# Altium schematic symbol library ACSIP.SchLib: 1 symbol
Pins are listed as number, name and electrical type; pins without a type are passive.

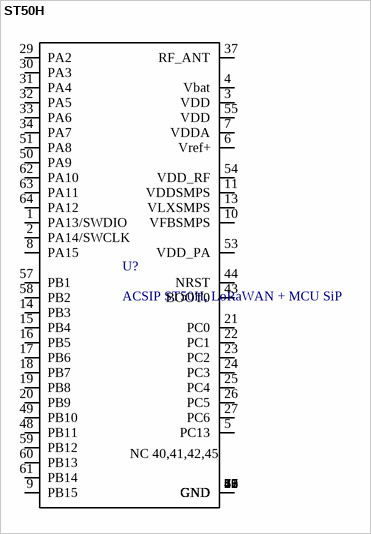
[diagram p0: symbol ST50H]

## ST50H
designator U?, comment ACSIP ST50H, LoRaWAN + MCU SiP
Manufacturer: ACSIP; Part Number: ST50H; Price 1: *; Price 100: *; Price 1000: *
footprint ST50H
pins: 1 PA13/SWDIO, 2 PA14/SWCLK, 3 VDD, 4 Vbat, 5 PC13, 6 Vref+, 7 VDDA, 8 PA15, 9 PB15, 10 VFBSMPS, 11 VDDSMPS, 12 GND, 13 VLXSMPS, 14 PB3, 15 PB4, 16 PB5, 17 PB6, 18 PB7, 19 PB8, 20 PB9, 21 PC0, 22 PC1, 23 PC2, 24 PC3, 25 PC4, 26 PC5, 27 PC6, 28 GND, 29 PA2, 30 PA3, 31 PA4, 32 PA5, 33 PA6, 34 PA7, 35 GND, 36 GND, 37 RF_ANT, 38 GND, 39 GND, 43 BOOT0, 44 NRST, 46 GND, 47 GND, 48 PB11, 49 PB10, 50 PA9, 51 PA8, 52 GND, 53 VDD_PA, 54 VDD_RF, 55 VDD, 56 GND, 57 PB1, 58 PB2, 59 PB12, 60 PB13, 61 PB14, 62 PA10, 63 PA11, 64 PA12, 65 GND, 66 GND, 67 GND, 68 GND, 69 GND, 70 GND, 71 GND, 72 GND, 73 GND
text: NC 40,41,42,45